# Altium schematic symbol library TB006-508-08BE.SchLib: 1 symbol
Pins are listed as number, name and electrical type; pins without a type are passive.

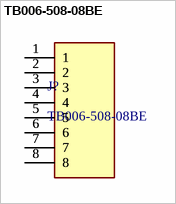
[diagram p0: symbol TB006-508-08BE]

## TB006-508-08BE
designator J?
footprint TB006-508-08BE
pins: 1, 1, 2, 2, 3, 3, 4, 4, 5, 5, 6, 6, 7, 7, 8, 8